# EAGLE library part LOGIC,TRANSLATOR:SY10ELT23(PECL-TTL,DUAL) (library QuantumOptics)
SY10ELT23 & SY100ELT23, Micrel, dual PECT to TTL translator, +3.3V, tp=2nS. Similar to MC10ELT23 but faster, and the single MC10ELT21. Based on http://www.micrel.com/_PDF/HBW/sy10-100elt23l.pdf
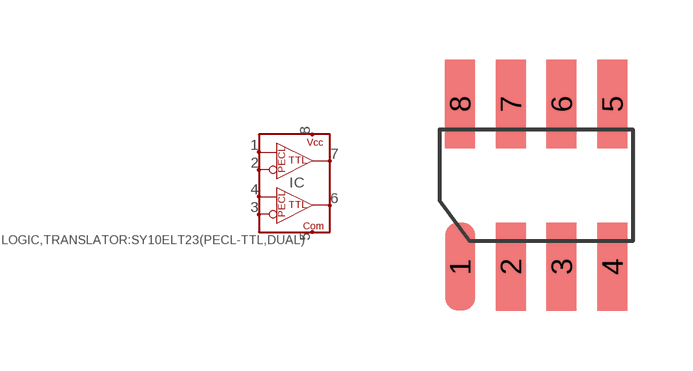
[diagram p103: symbol with the pads of SOIC-8; footprint SOIC-8]

Designator prefix IC

## LOGIC,TRANSLATOR:SY10ELT23(PECL-TTL,DUAL)-SOIC8  [SOIC-8]
1  D0
2  ~D0
3  ~D1
4  D1
5  COM
6  Q1
7  Q0
8  VCC

## Footprint SOIC-8 (pad centres in mm)
SOIC-8 (AKA SO-8), pads on 0.050" grid.
smd 0.75 x 2.2: 1 -1.27,-2.032; 2 0,-2.032; 3 1.27,-2.032; 4 2.54,-2.032; 5 2.54,2.032; 6 1.27,2.032; 7 0,2.032; 8 -1.27,2.032